# Altium footprint library QFN32_5X5X8.PcbLib: 1 footprints
Each footprint in its own frame and in the unit in brackets; x right, y up, seen from the top. Pads: shape width x height; smd on the part's side, far side on the other; paste and mask are expansions set on the pad; w line width, h text height; cw(c..) or ccw(c..) is an arc to the next point about the centre after c.
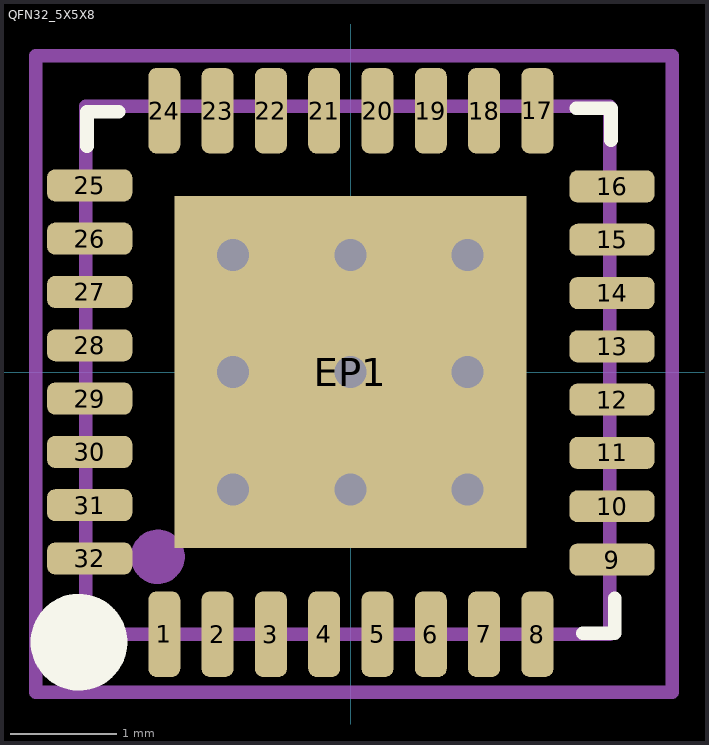
[diagram p0: the footprint, top view; thin cyan lines are the x and y axes]

## QFN32_5X5X8 [mm]
pads (33):
  rrect50% 0.3x0.8 smd mask+0.05: 1(-1.75,-2.455) 2(-1.25,-2.455) 3(-0.75,-2.455) 4(-0.25,-2.455) 5(0.25,-2.455) 6(0.75,-2.455) 7(1.25,-2.455) 8(1.75,-2.455) 17(1.75,2.455) 18(1.25,2.455) 19(0.75,2.455) 20(0.25,2.455) 21(-0.25,2.455) 22(-0.75,2.455) 23(-1.25,2.455) 24(-1.75,2.455)
  rrect50% 0.8x0.3 smd mask+0.05: 9(2.45,-1.755) 10(2.45,-1.255) 11(2.45,-0.755) 12(2.45,-0.255) 13(2.45,0.245) 14(2.45,0.745) 15(2.45,1.245) 16(2.45,1.745) 25(-2.45,1.755) 26(-2.45,1.255) 27(-2.45,0.755) 28(-2.45,0.255) 29(-2.45,-0.245) 30(-2.45,-0.745) 31(-2.45,-1.245) 32(-2.45,-1.745)
  rect 3.3x3.3 smd paste-2.54 mask+0.05: EP1(-0.004,0.003)
via -1.104,1.103 diameter 0.6 hole 0.3
via -0.004,1.103 diameter 0.6 hole 0.3
via 1.096,1.103 diameter 0.6 hole 0.3
via -1.104,0.003 diameter 0.6 hole 0.3
via -0.004,0.003 diameter 0.6 hole 0.3
via 1.096,0.003 diameter 0.6 hole 0.3
via -1.104,-1.097 diameter 0.6 hole 0.3
via -0.004,-1.097 diameter 0.6 hole 0.3
via 1.096,-1.097 diameter 0.6 hole 0.3
Top Overlay:
  circle w0.508: c-2.55,-2.53 r0.2
  lines w0.127: -2.475,2.12 -2.475,2.445 -2.175,2.445 ; 2.115,2.48 2.44,2.48 2.44,2.18 ; 2.175,-2.445 2.475,-2.445 2.475,-2.12
Top Paste:
  rectangle: -1.397,0.127 -0.127,1.27
  rectangle: 0.127,0.127 1.397,1.27
  rectangle: 0.127,-1.27 1.397,-0.127
  rectangle: -1.397,-1.27 -0.127,-0.127
Top Assembly:
  circle w0.254: c-1.812,-1.729 r0.127
  lines w0.127: -2.487,2.498 -2.487,2.498 ; -2.487,2.498 -2.487,-2.455 2.428,-2.455 2.428,2.498 -2.487,2.498
  text "'.Designator'" at -2.286,-1.27 h0.64
Top Courtyard:
  lines w0.127: -0.381,0 0.381,0 ; 0,-0.381 0,0.381 ; -2.955,-2.999 -2.955,2.97 3.014,2.97 3.014,-2.999 -2.955,-2.999
3D body: height 0.89, standoff 0, extent -2.487,-2.455 2.428,2.498